# EAGLE library part CH32V307VCT (library WCH_32V)
CH32V307VCT
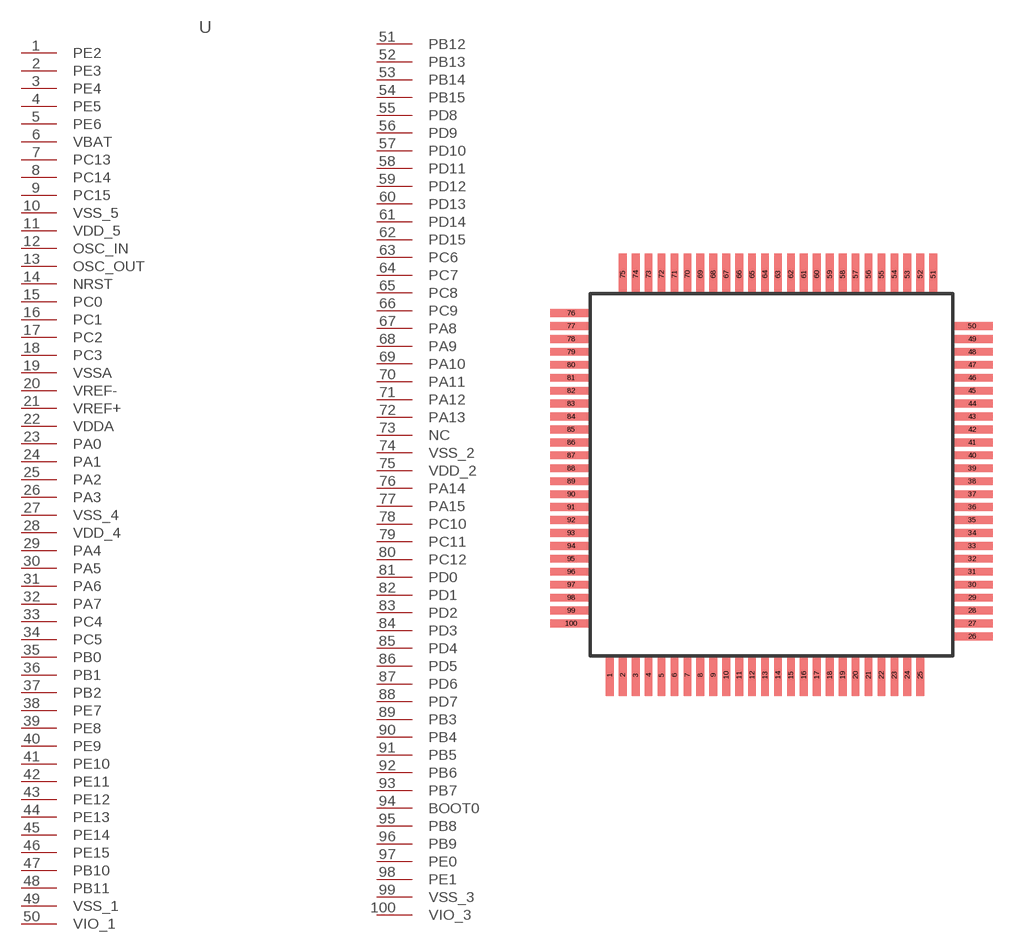
[diagram p1: symbol with the pads of LQFP100; footprint LQFP100]

Designator prefix -

## CH32V307VCT  [LQFP100]
1  PE2
2  PE3
3  PE4
4  PE5
5  PE6
6  VBAT  pwr
7  PC13
8  PC14
9  PC15
10  VSS_5  pwr
11  VDD_5  pwr
12  OSC_IN  in
13  OSC_OUT  out
14  NRST  in
15  PC0
16  PC1
17  PC2
18  PC3
19  VSSA  pwr
20  VREF-  pwr
21  VREF+  pwr
22  VDDA  pwr
23  PA0
24  PA1
25  PA2
26  PA3
27  VSS_4  pwr
28  VDD_4  pwr
29  PA4
30  PA5
31  PA6
32  PA7
33  PC4
34  PC5
35  PB0
36  PB1
37  PB2
38  PE7
39  PE8
40  PE9
41  PE10
42  PE11
43  PE12
44  PE13
45  PE14
46  PE15
47  PB10
48  PB11
49  VSS_1  pwr
50  VIO_1  pwr
51  PB12
52  PB13
53  PB14
54  PB15
55  PD8
56  PD9
57  PD10
58  PD11
59  PD12
60  PD13
61  PD14
62  PD15
63  PC6
64  PC7
65  PC8
66  PC9
67  PA8
68  PA9
69  PA10
70  PA11
71  PA12
72  PA13
73  NC
74  VSS_2  pwr
75  VDD_2  pwr
76  PA14
77  PA15
78  PC10
79  PC11
80  PC12
81  PD0
82  PD1
83  PD2
84  PD3
85  PD4
86  PD5
87  PD6
88  PD7
89  PB3
90  PB4
91  PB5
92  PB6
93  PB7
94  BOOT0
95  PB8
96  PB9
97  PE0
98  PE1
99  VSS_3  pwr
100  VIO_3  pwr

## Footprint LQFP100 (pad centres in mm)
LQFP100 0.5mm pitch
smd 0.3 x 1.6: 1 -6.25,-7.75; 2 -5.75,-7.75; 3 -5.25,-7.75; 4 -4.75,-7.75; 5 -4.25,-7.75; 6 -3.75,-7.75; 7 -3.25,-7.75; 8 -2.75,-7.75; 9 -2.25,-7.75; 10 -1.75,-7.75; 11 -1.25,-7.75; 12 -0.75,-7.75; 13 -0.25,-7.75; 14 0.25,-7.75; 15 0.75,-7.75; 16 1.25,-7.75; 17 1.75,-7.75; 18 2.25,-7.75; 19 2.75,-7.75; 20 3.25,-7.75; 21 3.75,-7.75; 22 4.25,-7.75; 23 4.75,-7.75; 24 5.25,-7.75; 25 5.75,-7.75; 51 6.25,7.75; 52 5.75,7.75; 53 5.25,7.75; 54 4.75,7.75; 55 4.25,7.75; 56 3.75,7.75; 57 3.25,7.75; 58 2.75,7.75; 59 2.25,7.75; 60 1.75,7.75; 61 1.25,7.75; 62 0.75,7.75; 63 0.25,7.75; 64 -0.25,7.75; 65 -0.75,7.75; 66 -1.25,7.75; 67 -1.75,7.75; 68 -2.25,7.75; 69 -2.75,7.75; 70 -3.25,7.75; 71 -3.75,7.75; 72 -4.25,7.75; 73 -4.75,7.75; 74 -5.25,7.75; 75 -5.75,7.75
smd 1.6 x 0.3: 26 7.75,-6.25; 27 7.75,-5.75; 28 7.75,-5.25; 29 7.75,-4.75; 30 7.75,-4.25; 31 7.75,-3.75; 32 7.75,-3.25; 33 7.75,-2.75; 34 7.75,-2.25; 35 7.75,-1.75; 36 7.75,-1.25; 37 7.75,-0.75; 38 7.75,-0.25; 39 7.75,0.25; 40 7.75,0.75; 41 7.75,1.25; 42 7.75,1.75; 43 7.75,2.25; 44 7.75,2.75; 45 7.75,3.25; 46 7.75,3.75; 47 7.75,4.25; 48 7.75,4.75; 49 7.75,5.25; 50 7.75,5.75; 76 -7.75,6.25; 77 -7.75,5.75; 78 -7.75,5.25; 79 -7.75,4.75; 80 -7.75,4.25; 81 -7.75,3.75; 82 -7.75,3.25; 83 -7.75,2.75; 84 -7.75,2.25; 85 -7.75,1.75; 86 -7.75,1.25; 87 -7.75,0.75; 88 -7.75,0.25; 89 -7.75,-0.25; 90 -7.75,-0.75; 91 -7.75,-1.25; 92 -7.75,-1.75; 93 -7.75,-2.25; 94 -7.75,-2.75; 95 -7.75,-3.25; 96 -7.75,-3.75; 97 -7.75,-4.25; 98 -7.75,-4.75; 99 -7.75,-5.25; 100 -7.75,-5.75